# Altium footprint library 2009_01_27_Thomas_Schmid_Epic_Plus.PcbLib: 17 footprints (part 1 of 2)
Each footprint in its own frame and in the unit in brackets; x right, y up, seen from the top. Pads: shape width x height; smd on the part's side, far side on the other; paste and mask are expansions set on the pad; w line width, h text height; cw(c..) or ccw(c..) is an arc to the next point about the centre after c.
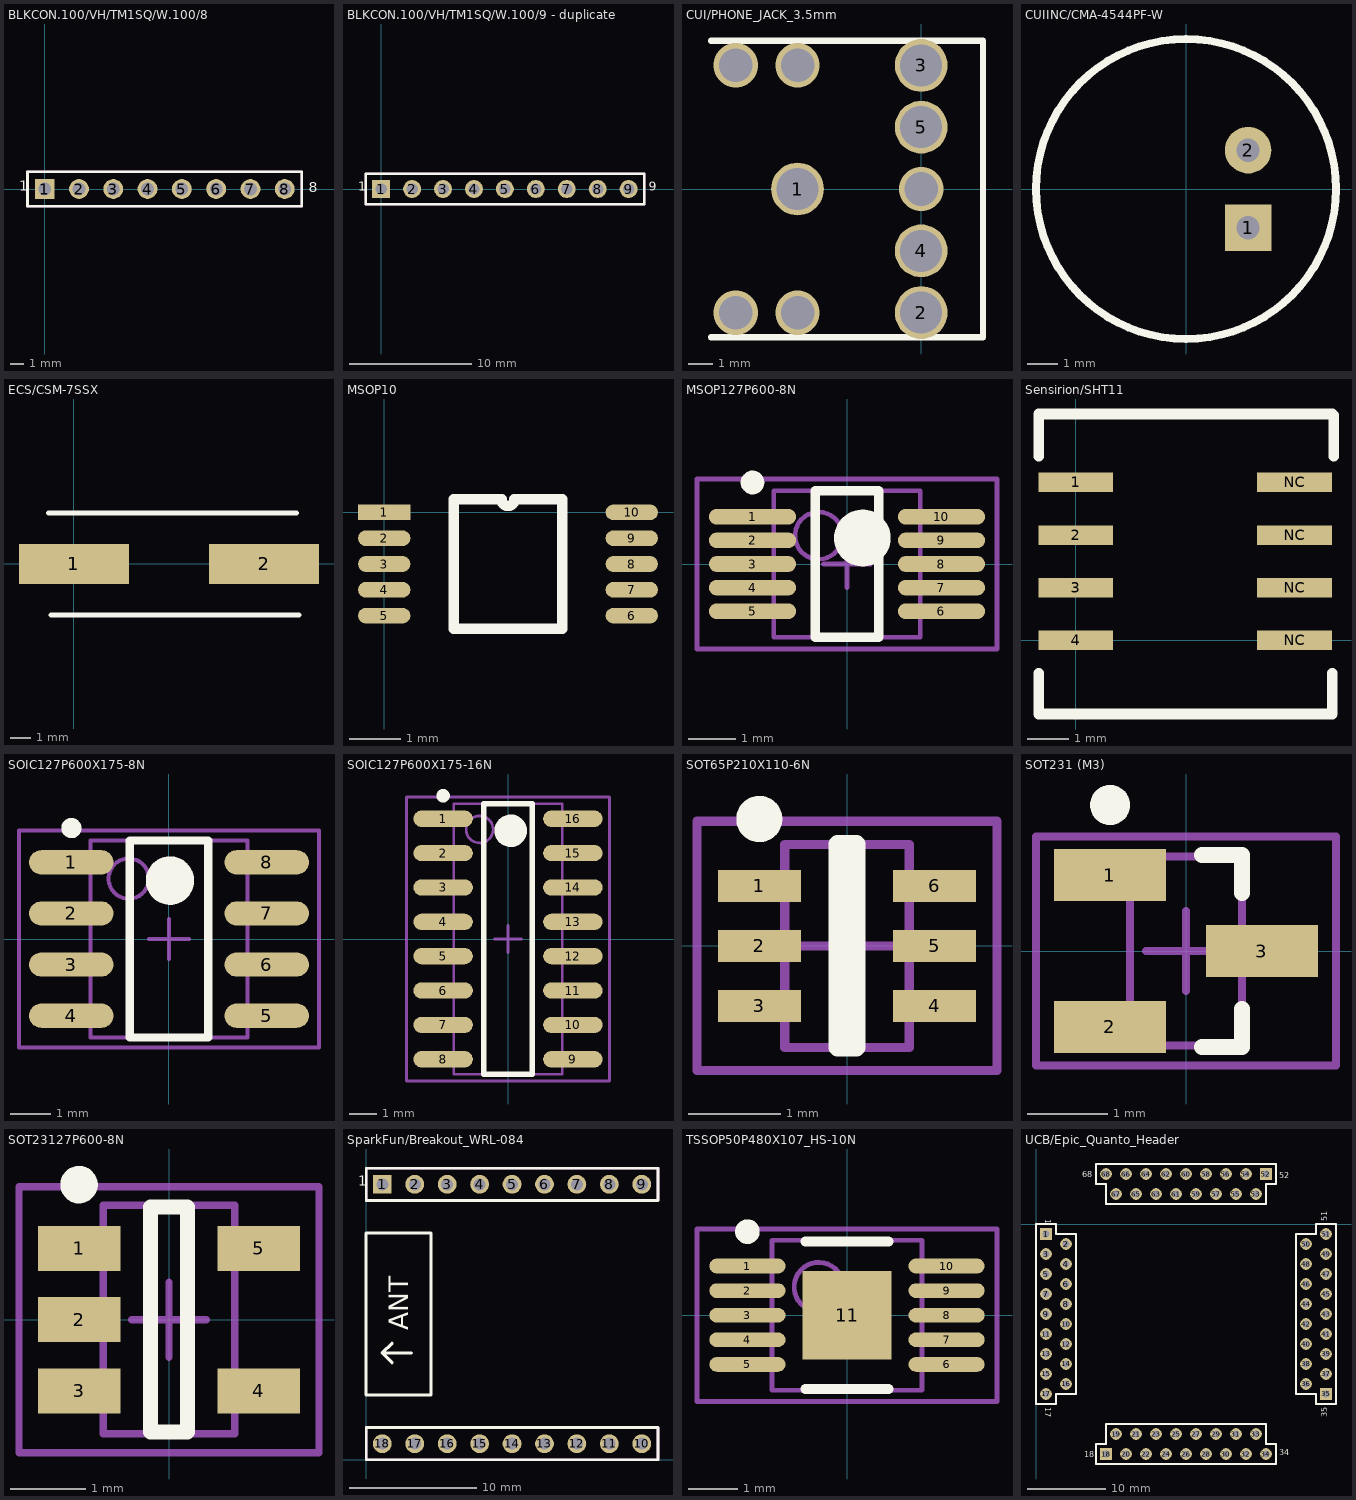
[diagram p0: the footprints below, top view; thin cyan lines are the x and y axes]

## BLKCON.100/VH/TM1SQ/W.100/8 [mil]
pads (8):
  rect 58x58 / inner round 60 / far side rect 58x58 hole 37: 1(0,0)
  round 58 / inner round 60 / far side round 58 hole 37: 2(100,0) 3(200,0) 4(300,0) 5(400,0) 6(500,0) 7(600,0) 8(700,0)
Top Overlay:
  lines w8: -50,-50 750,-50 750,50 -50,50 -50,-50
  text "1" at -75,-5 h30
  text "8" at 770,-10 h30
Mechanical 1:
  lines w8: -50,-50 750,-50 750,50 -50,50 -50,-50

## BLKCON.100/VH/TM1SQ/W.100/9 - duplicate [mil]
pads (9):
  rect 58x58 / inner round 60 / far side rect 58x58 hole 37: 1(0,0)
  round 58 / inner round 60 / far side round 58 hole 37: 2(100,0) 3(200,0) 4(300,0) 5(400,0) 6(500,0) 7(600,0) 8(700,0) 9(800,0)
Top Overlay:
  lines w8: -50,-50 -50,50 850,50 850,-50 -50,-50
  text "9" at 865,-5 h30
  text "1" at -75,-5 h30
Mechanical 1:
  lines w8: -50,-50 -50,50 850,50 850,-50 -50,-50

## CUI/PHONE_JACK_3.5mm [mil] "3.5mm Audio Jack Stereo"
height 196.85
pads (5):
  round 84 hole 67: 1(-196.85,0) 2(0,-196.85) 3(0,196.85) 4(0,-98.43) 5(0,98.43)
via 0,0 diameter 70.5 hole 53.5
via -196.85,-196.85 diameter 70.5 hole 53.5
via -196.85,196.85 diameter 70.5 hole 53.5
via -295.28,-196.85 diameter 70.5 hole 53.5
via -295.28,196.85 diameter 70.5 hole 53.5
Top Overlay:
  lines w10: -334.65,-236.22 98.43,-236.22 98.43,236.22 -334.65,236.22

## CUIINC/CMA-4544PF-W [mil] "Microphone"
height 177.17
pads (2):
  rect 60x60 hole 30: 1(80,-50)
  round 60 hole 30: 2(80,50)
Top Overlay:
  circle w10: c0,0 r193.27

## ECS/CSM-7SSX [mm] "Low Profile SMD Crystal from ECS"
height 2.6
pads (2):
  rect 5.5x2 smd: 1(0,0) 2(9.5,0)
Top Overlay:
  lines w0.254: -1.27,2.54 11.13,2.54 ; -1.143,-2.54 11.257,-2.54

## MSOP10 [mil] "for Micrel LMV982"
height 1
pads (10):
  rect 40x12 smd: 1(0,0)
  oval 40x12 smd: 2(0,-19.7) 3(0,-39.4) 4(0,-59.1) 5(0,-78.8) 6(189,-78.8) 7(189,-59.1) 8(189,-39.4) 9(189,-19.7) 10(189,0)
Top Overlay:
  lines w8: 53,-88.65 136,-88.65 136,9.85 99.42,9.85 cw(c94.5,9.85) 89.58,9.85 53,9.85 53,-88.65

## MSOP127P600-8N [mm] "For AD SSM2167"
height 1.1
pads (10):
  oval 1.85x0.332 smd: 1(-2,1) 2(-2,0.5) 3(-2,0) 4(-2,-0.5) 5(-2,-1) 6(2,-1) 7(2,-0.5) 8(2,0) 9(2,0.5) 10(2,1)
Top Overlay:
  circle w0.25: c-2,1.725 r0.125
  circle w0.6: c0.325,0.55 r0.3
  lines w0.2: -0.675,-1.55 -0.675,1.55 0.675,1.55 0.675,-1.55 -0.675,-1.55
Mechanical 13:
  circle w0.1: c-0.6,0.6 r0.5
  lines w0.1: -1.55,-1.55 -1.55,1.55 1.55,1.55 1.55,-1.55 -1.55,-1.55
Mechanical 15:
  lines w0.1: -0.5,0 0.5,0 ; 0,-0.5 0,0.5 ; -3.175,-1.8 -3.175,1.8 3.175,1.8 3.175,-1.8 -3.175,-1.8
3D body: height 1.1, standoff 0.05, extent -1.55,-1.55 1.55,1.55

## Sensirion/SHT11 [mm] "Sensirion SHT11 footprint"
height 2.5
pads (8):
  rect 1.8x0.47 smd: 1(0,3.81) 2(0,2.54) 3(0,1.27) 4(0,0) NC(5.28,0) NC(5.28,1.27) NC(5.28,2.54) NC(5.28,3.81)
Top Overlay:
  lines w0.254: -0.889,-0.794 -0.889,-1.778 6.191,-1.778 6.191,-0.794 ; -0.889,4.445 -0.889,5.429 ; -0.889,5.461 6.191,5.461 ; 6.223,4.445 6.223,5.429

## SOIC127P600X175-8N [mm] "SOIC, 8-Leads, Body 4.9x3.9mm (max), Pitch 1.27mm, IPC Medium Density, for Microchip MCP6042"
height 1.75
pads (8):
  oval 2.1x0.6 smd: 1(-2.425,1.905) 2(-2.425,0.635) 3(-2.425,-0.635) 4(-2.425,-1.905) 5(2.425,-1.905) 6(2.425,-0.635) 7(2.425,0.635) 8(2.425,1.905)
Top Overlay:
  circle w0.6: c0.025,1.45 r0.3
  circle w0.25: c-2.425,2.755 r0.125
  lines w0.2: -0.975,-2.45 0.975,-2.45 0.975,2.45 -0.975,2.45 -0.975,-2.45
Mechanical 13:
  circle w0.1: c-1,1.5 r0.5
  lines w0.1: -1.95,-2.45 1.95,-2.45 1.95,2.45 -1.95,2.45 -1.95,-2.45
Mechanical 15:
  lines w0.1: -0.5,0 0.5,0 ; 0,-0.5 0,0.5 ; -3.725,-2.7 3.725,-2.7 3.725,2.7 -3.725,2.7 -3.725,-2.7
3D body: height 1.75, standoff 0.1, extent -1.95,-2.45 1.95,2.45

## SOIC127P600X175-16N [mm] "SOIC, 16-Leads, Body 10.0x4.0mm (max), Pitch 1.27mm, IPC Medium Density, AD5242"
height 1.75
pads (16):
  oval 2.2x0.6 smd: 1(-2.4,4.445) 2(-2.4,3.175) 3(-2.4,1.905) 4(-2.4,0.635) 5(-2.4,-0.635) 6(-2.4,-1.905) 7(-2.4,-3.175) 8(-2.4,-4.445) 9(2.4,-4.445) 10(2.4,-3.175) 11(2.4,-1.905) 12(2.4,-0.635) 13(2.4,0.635) 14(2.4,1.905) 15(2.4,3.175) 16(2.4,4.445)
Top Overlay:
  circle w0.6: c0.1,4 r0.3
  circle w0.25: c-2.4,5.295 r0.125
  lines w0.2: -0.9,-5 0.9,-5 0.9,5 -0.9,5 -0.9,-5
Mechanical 13:
  circle w0.1: c-1.05,4.05 r0.5
  lines w0.1: -2,-5 2,-5 2,5 -2,5 -2,-5
Mechanical 15:
  lines w0.1: -0.5,0 0.5,0 ; 0,-0.5 0,0.5 ; -3.75,-5.25 3.75,-5.25 3.75,5.25 -3.75,5.25 -3.75,-5.25
3D body: height 1.75, standoff 0.1, extent -2,-5 2,5

## SOT65P210X110-6N [mm] "SOT23, 6-Leads, Body 2.2x2.4mm (max), Pitch 0.65mm, IPC Medium Density, AD5247"
height 1.1
pads (6):
  rect 0.9x0.35 smd: 1(-0.95,0.65) 2(-0.95,0) 3(-0.95,-0.65) 4(0.95,-0.65) 5(0.95,0) 6(0.95,0.65)
Top Overlay:
  circle w0.25: c-0.95,1.375 r0.125
  lines w0.2: -0.1,-1.1 -0.1,1.1 0.1,1.1 0.1,-1.1 -0.1,-1.1
Mechanical 13:
  lines w0.1: -0.675,-1.1 0.675,-1.1 0.675,1.1 -0.675,1.1 -0.675,-1.1
Mechanical 15:
  lines w0.1: -0.5,0 0.5,0 ; 0,-0.5 0,0.5 ; -1.625,-1.35 1.625,-1.35 1.625,1.35 -1.625,1.35 -1.625,-1.35
3D body: height 1.1, standoff 0.05, extent -0.675,-1.1 0.675,1.1

## SOT231 (M3) [mm] "for Micrel LM4041"
height 1.15
pads (3):
  rect 1.4x0.65 smd: 1(-0.95,0.95) 2(-0.95,-0.95) 3(0.95,0)
Top Overlay:
  circle w0.25: c-0.95,1.825 r0.125
  lines w0.2: 0.2,-1.2 0.7,-1.2 0.7,-0.725 ; 0.2,1.2 0.7,1.2 0.7,0.725
Mechanical 13:
  lines w0.1: -0.7,-1.18 -0.7,1.18 0.7,1.18 0.7,-1.18 -0.7,-1.18
Mechanical 15:
  lines w0.1: -0.5,0 0.5,0 ; 0,-0.5 0,0.5 ; -1.875,-1.43 -1.875,1.43 1.875,1.43 1.875,-1.43 -1.875,-1.43
3D body: height 1.15, standoff 0.01, extent -0.7,-1.18 0.7,1.18

## SOT23127P600-8N [mm] "for TI LMV931 SOT-23-DBV package"
height 1.45
pads (5):
  rect 1.1x0.6 smd: 1(-1.2,0.95) 2(-1.2,0) 3(-1.2,-0.95) 4(1.2,-0.95) 5(1.2,0.95)
Top Overlay:
  circle w0.25: c-1.2,1.8 r0.125
  lines w0.2: -0.25,-1.5 -0.25,1.5 0.25,1.5 0.25,-1.5 -0.25,-1.5
Mechanical 13:
  lines w0.1: -0.875,-1.525 0.875,-1.525 0.875,1.525 -0.875,1.525 -0.875,-1.525
Mechanical 15:
  lines w0.1: -0.5,0 0.5,0 ; 0,-0.5 0,0.5 ; -2,-1.775 2,-1.775 2,1.775 -2,1.775 -2,-1.775
3D body: height 1.45, standoff 0, extent -0.875,-1.525 0.875,1.525

## SparkFun/Breakout_WRL-084 [mil] "Two 9 pin headers, 800mil spacing for SparkFun WRL-084 bluetooth module"
height 5
pads (18):
  rect 58x58 / inner round 60 / far side rect 58x58 hole 37: 1(50,850)
  round 58 / inner round 60 / far side round 58 hole 37: 2(150,850) 3(250,850) 4(350,850) 5(450,850) 6(550,850) 7(650,850) 8(750,850) 9(850,850) 10(850,50) 11(750,50) 12(650,50) 13(550,50) 14(450,50) 15(350,50) 16(250,50) 17(150,50) 18(50,50)
Top Overlay:
  lines w8: 0,0 0,100 900,100 900,0 0,0 ; 0,800 0,900 900,900 900,800 0,800
  lines w10: 80,300 50,330 ; 80,360 50,330 ; 140,330 50,330 ; 0,200 0,700 200,700 200,200 0,200
  text "ANT" at 130,400 h60
  text "1" at -25,845 h30
Mechanical 1:
  lines w8: 0,0 0,100 900,100 900,0 0,0 ; 0,800 0,900 900,900 900,800 0,800

## TSSOP50P480X107_HS-10N [mm] "TSSOP, 10-Leads, Body 3.0x3.0mm (max), Pitch 0.50mm, IPC Medium Density, for TI/TPA0233"
height 1.07
pads (11):
  oval 1.55x0.3 smd: 1(-2.025,1) 2(-2.025,0.5) 3(-2.025,0) 4(-2.025,-0.5) 5(-2.025,-1) 6(2.025,-1) 7(2.025,-0.5) 8(2.025,0) 9(2.025,0.5) 10(2.025,1)
  rect 1.8x1.8 smd: 11(0,0)
Top Overlay:
  circle w0.25: c-2.025,1.7 r0.125
  lines w0.2: -0.85,-1.5 0.85,-1.5 ; -0.85,1.5 0.85,1.5
Mechanical 13:
  circle w0.1: c-0.575,0.575 r0.5
  lines w0.1: -1.525,-1.525 -1.525,1.525 1.525,1.525 1.525,-1.525 -1.525,-1.525
Mechanical 15:
  lines w0.1: -0.5,0 0.5,0 ; 0,-0.5 0,0.5 ; -3.05,-1.75 -3.05,1.75 3.05,1.75 3.05,-1.75 -3.05,-1.75
3D body: height 1.07, standoff 0.05, extent -1.525,-1.525 1.525,1.525

## UCB/Epic_Quanto_Header [mil] "Header to connect to the Epic Quanto Testbed Board"
height -1
pads (68):
  rect 58x58 / inner round 60 / far side rect 58x58 hole 37: 1(50,-50) 18(350,-1150) 35(1450,-850) 52(1150,250)
  round 58 / inner round 60 / far side round 58 hole 37: 2(150,-100) 3(50,-150) 4(150,-200) 5(50,-250) 6(150,-300) 7(50,-350) 8(150,-400) 9(50,-450) 10(150,-500) 11(50,-550) 12(150,-600) 13(50,-650) 14(150,-700) 15(50,-750) 16(150,-800) 17(50,-850) 19(400,-1050) 20(450,-1150) 21(500,-1050) 22(550,-1150) 23(600,-1050) 24(650,-1150) 25(700,-1050) 26(750,-1150) 27(800,-1050) 28(850,-1150) 29(900,-1050) 30(950,-1150) 31(1000,-1050) 32(1050,-1150) 33(1100,-1050) 34(1150,-1150) 36(1350,-800) 37(1450,-750) 38(1350,-700) 39(1450,-650) 40(1350,-600) 41(1450,-550) 42(1350,-500) 43(1450,-450) 44(1350,-400) 45(1450,-350) 46(1350,-300) 47(1450,-250) 48(1350,-200) 49(1450,-150) 50(1350,-100) 51(1450,-50) 53(1100,150) 54(1050,250) 55(1000,150) 56(950,250) 57(900,150) 58(850,250) 59(800,150) 60(750,250) 61(700,150) 62(650,250) 63(600,150) 64(550,250) 65(500,150) 66(450,250) 67(400,150) 68(350,250)
Top Overlay:
  lines w8: 0,-900 0,0 100,0 100,-50 200,-50 200,-850 100,-850 100,-900 0,-900 ; 300,-1200 300,-1100 350,-1100 350,-1000 1150,-1000 1150,-1100 1200,-1100 1200,-1200 300,-1200 ; 300,200 300,300 1200,300 1200,200 1150,200 1150,100 350,100 350,200 300,200 ; 1300,-850 1400,-850 1400,-900 1500,-900 1500,0 1400,0 1400,-50 1300,-50 1300,-850
  text "17" at 45,-915 h30
  text "1" at 45,25 h30
  text "34" at 1215,-1155 h30
  text "18" at 240,-1165 h30
  text "51" at 1455,15 h30
  text "35" at 1455,-965 h30
  text "68" at 230,235 h30
  text "52" at 1215,230 h30
Mechanical 1:
  lines w8: 100,-900 0,-900 0,0 100,0 ; 100,-850 200,-850 200,-50 100,-50 ; 300,-1100 300,-1200 1200,-1200 1200,-1100 ; 300,200 300,300 1200,300 1200,200 ; 350,-1100 350,-1000 1150,-1000 1150,-1100 ; 350,200 350,100 1150,100 1150,200 ; 1400,-900 1500,-900 1500,0 1400,0 ; 1400,-850 1300,-850 1300,-50 1400,-50